# Altium footprint library X_3.2x2.5.PcbLib: 1 footprints
Each footprint in its own frame and in the unit in brackets; x right, y up, seen from the top. Pads: shape width x height; smd on the part's side, far side on the other; paste and mask are expansions set on the pad; w line width, h text height; cw(c..) or ccw(c..) is an arc to the next point about the centre after c.
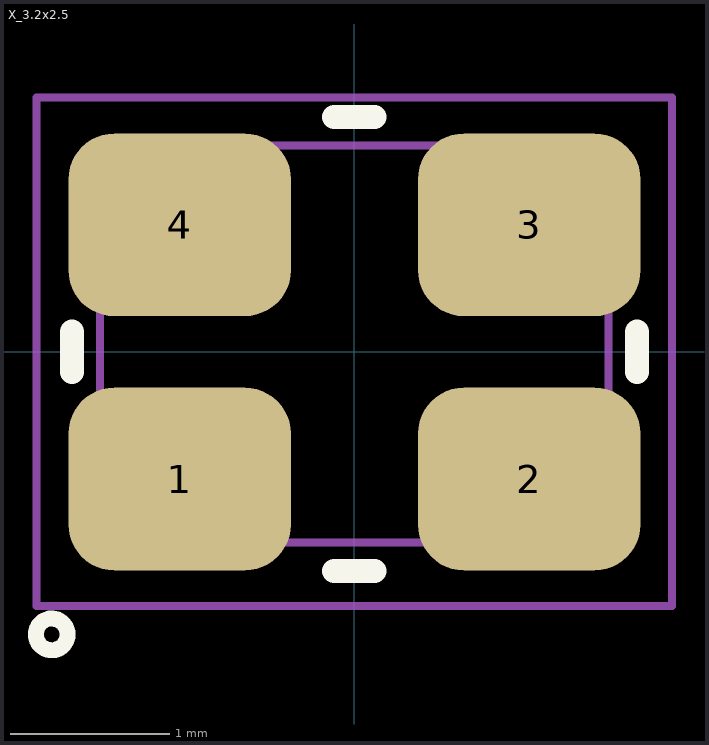
[diagram p0: the footprint, top view; thin cyan lines are the x and y axes]

## X_3.2x2.5 [mm] "Crystal resonator; 3.2mm x 2.5mm"
height 1.2
pads (4):
  rrect50% 1.4x1.15 smd mask+0.05: 1(-1.1,-0.8) 2(1.1,-0.8) 3(1.1,0.8) 4(-1.1,0.8)
Top Overlay:
  circle w0.1: c-1.905,-1.778 r0.1
  lines w0.152: -1.778,-0.127 -1.778,0.127 ; -0.127,-1.378 0.127,-1.378 ; -0.127,1.478 0.127,1.478 ; 1.778,-0.127 1.778,0.127
Top Assembly:
  lines w0.05: -1.6,-1.2 -1.6,1.3 1.6,1.3 1.6,-1.2 -1.6,-1.2
Top Courtyard:
  lines w0.05: -2,-1.6 -2,1.6 2,1.6 2,-1.6 -2,-1.6
3D body "User Library-ABM8G.step": height 1.01, standoff 0, extent -1.6,-1.25 1.6,1.25